# Altium schematic symbol library project-schematic-library.SchLib: 11 symbols
Pins are listed as number, name and electrical type; pins without a type are passive.

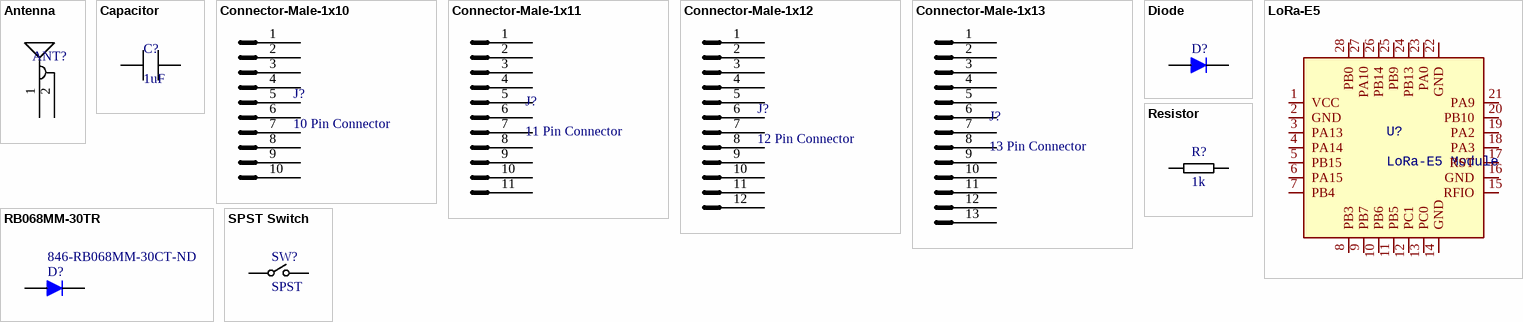
[diagram p0: symbols Antenna to SPST Switch]

## Antenna
designator ANT?  (value not drawn)
Generic Antenna Symbol
pins: 1 -, 2 -

## Capacitor
designator C?, comment 1uF
Generic Capacitor
footprint CAPACITOR_0603 (Chip Capacitor, 2-Leads, Body 1.60x0.78mm, IPC High Density)
pins: 1, 2

## Connector-Male-1x10
designator J?, comment 10 Pin Connector
pins: 1 -, 2 -, 3 -, 4 -, 5 -, 6 -, 7 -, 8 -, 9 -, 10 -

## Connector-Male-1x11
designator J?, comment 11 Pin Connector
pins: 1 -, 2 -, 3 -, 4 -, 5 -, 6 -, 7 -, 8 -, 9 -, 10 -, 11 -

## Connector-Male-1x12
designator J?, comment 12 Pin Connector
pins: 1 -, 2 -, 3 -, 4 -, 5 -, 6 -, 7 -, 8 -, 9 -, 10 -, 11 -, 12 -

## Connector-Male-1x13
designator J?, comment 13 Pin Connector
pins: 1 -, 2 -, 3 -, 4 -, 5 -, 6 -, 7 -, 8 -, 9 -, 10 -, 11 -, 12 -, 13 -

## Diode
designator D?, comment Schottky Diode  (value not drawn)
Schottky Barrier Diode
footprint SODFL350X90-2N (SODFL, 2-Leads, Body 1.60x3.50mm, IPC Medium Density)
pins: 1, 2

## LoRa-E5
designator U?, comment LoRa-E5 Module
ARM Cortex-M4 and SX126x embedded, supports LoRaWAN on EU868 & US915
footprint LoRa-e5
pins: 1 VCC, 2 GND, 3 PA13, 4 PA14, 5 PB15, 6 PA15, 7 PB4, 8 PB3, 9 PB7, 10 PB6, 11 PB5, 12 PC1, 13 PC0, 14 GND, 15 RFIO, 16 GND, 17 RST, 18 PA3, 19 PA2, 20 PB10, 21 PA9, 22 GND, 23 PA0, 24 PB13, 25 PB9, 26 PB14, 27 PA10, 28 PB0

## RB068MM-30TR
designator D?  Supplier Part Number 1: 846-RB068MM-30CT-ND  (hidden comment: RB068MM-30TR)
Schottky Diodes & Rectifiers SCHOTTKY DIODE; Manufacturer: Rohm; Supplier 1: Digi-Key; Manufacturer Part Number: RB068MM-30TR; RoHS: Yes; Category: Schottky Diodes; Stock 1: 606; Pricing 1: 1=0.41000, 10=0.33100, 100=0.22530, 500=0.16896, 1000=0.12672 (USD); RoHS Compliant: Yes
footprint SODFL350X90-2N (SODFL, 2-Leads, Body 1.60x3.50mm, IPC Medium Density)

## Resistor
designator R?, comment 1k
Generic 0603 Resistor
footprint Resistor_0603
pins: 1, 2

## SPST Switch
designator SW?, comment SPST
Single Pole Single Throw Switch
footprint TL3342 (Tactile Button Switch)
pins: 1 -, 2